# Altium integrated library Lattice XP FPGA.IntLib: 158 symbols (part 2 of 2)
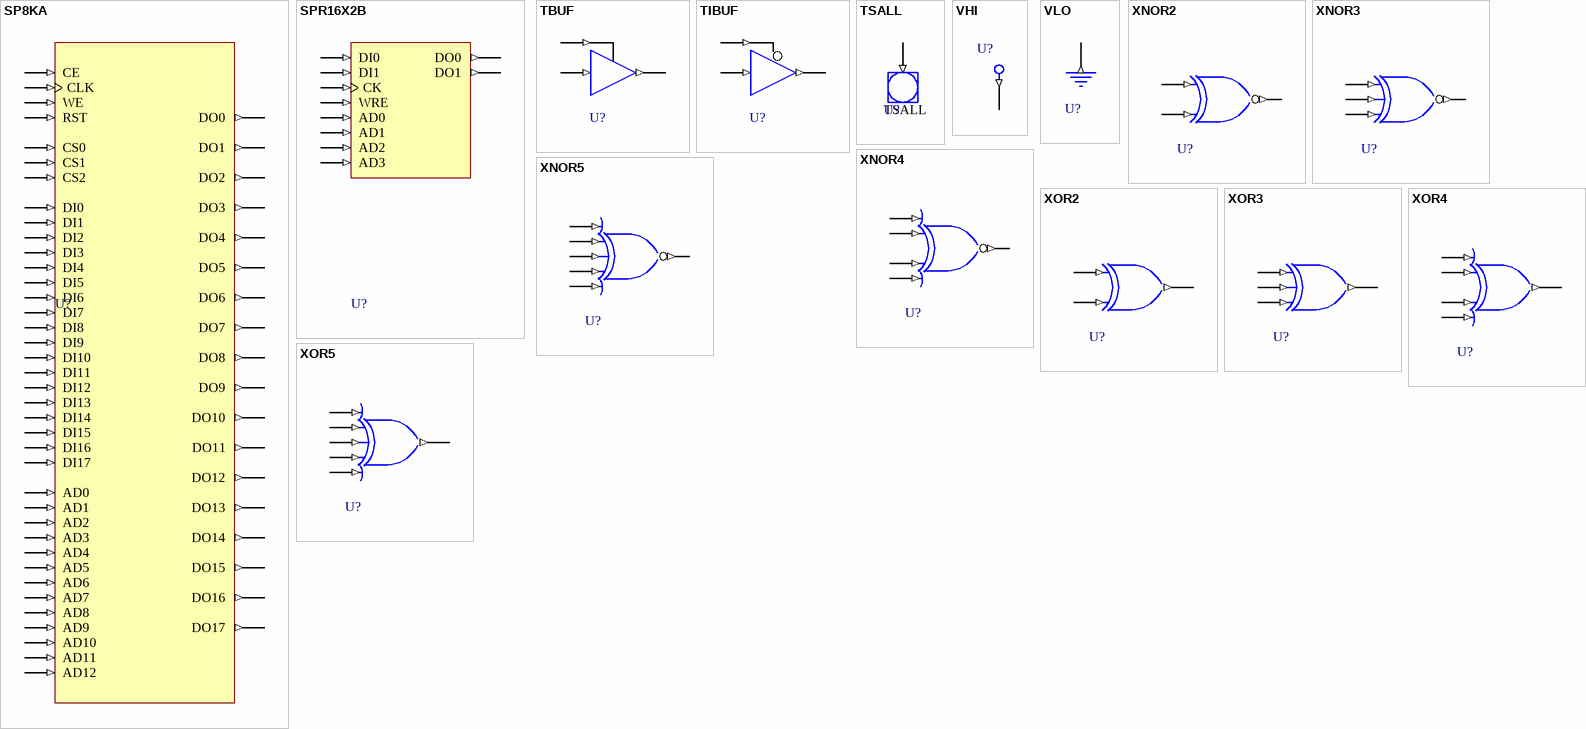
[diagram p5: symbols SP8KA to XOR5]

## XOR5
designator U?
5 Input Exclusive OR Gate; FPGAVendor: Lattice; Published: 15-Jun-2005; Publisher: Altium Limited; HelpURL: http://www.latticesemi.com/lit/docs/manuals/library.pdf
pins: A (in), B (in), C (in), D (in), E (in), Z (out)